# EAGLE library part IRS21864SPBF (library International_Rectifier_By_element14_Batch_1)
HIGH AND LOW SIDE DRIVER
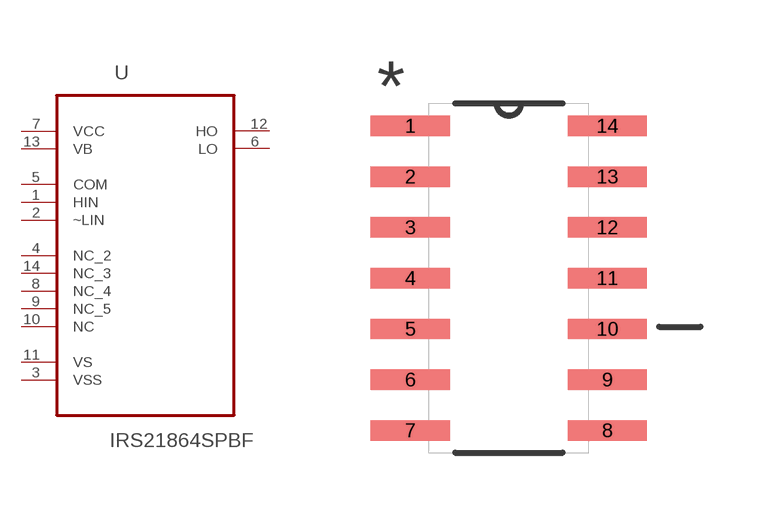
[diagram p97: symbol with the pads of SOIC127P600X175-14N; footprint SOIC127P600X175-14N]

Designator prefix U

## IRS21864SPBF (MPN: IRS21864SPBF; OC_FARNELL: 1688539; OC_NEWARK: 21M6614; PACKAGE: SOIC-14; SUPPLIER: International Rectifier)  [SOIC127P600X175-14N]
1  HIN  in
2  ~LIN  in
3  VSS  pwr
4  NC_2  nc
5  COM  pas
6  LO  out
7  VCC  pwr
8  NC_4  nc
9  NC_5  nc
10  NC  nc
11  VS  pwr
12  HO  out
13  VB  pas
14  NC_3  nc

## Footprint SOIC127P600X175-14N (pad centres in mm)
smd 1.981 x 0.508: 1 -2.464,3.81; 2 -2.464,2.54; 3 -2.464,1.27; 4 -2.464,0; 5 -2.464,-1.27; 6 -2.464,-2.54; 7 -2.464,-3.81; 8 2.464,-3.81; 9 2.464,-2.54; 10 2.464,-1.27; 11 2.464,0; 12 2.464,1.27; 13 2.464,2.54; 14 2.464,3.81